# Altium footprint library DFE322520FD-2R2MP2.PcbLib: 3 footprints
Each footprint in its own frame and in the unit in brackets; x right, y up, seen from the top. Pads: shape width x height; smd on the part's side, far side on the other; paste and mask are expansions set on the pad; w line width, h text height; cw(c..) or ccw(c..) is an arc to the next point about the centre after c.
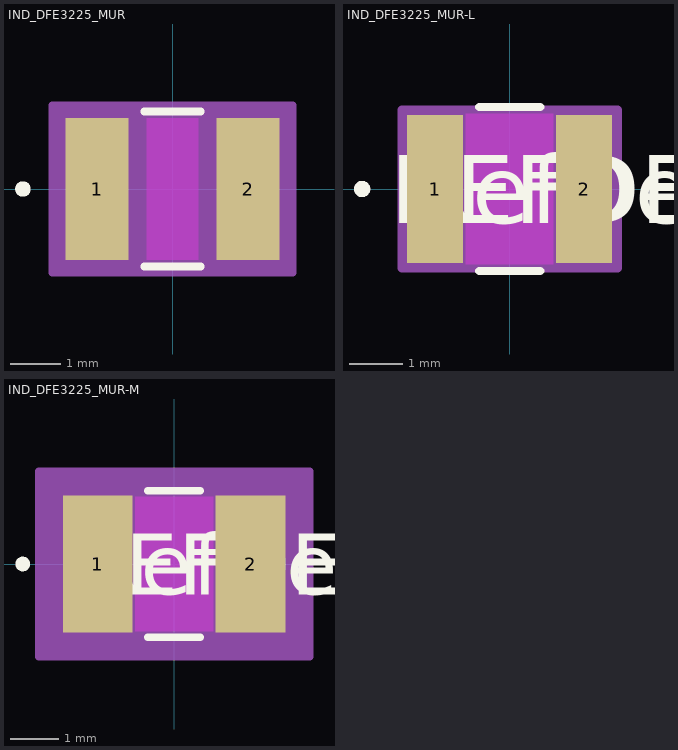
[diagram p0: the footprints below, top view; thin cyan lines are the x and y axes]

## IND_DFE3225_MUR [mil]
pads (2):
  rect 49x110 smd paste+0 mask+0: 1(-58.5,0) 2(58.5,0)
Top Layer keep-out:
  region: -20,-53 -20,53 20,53 20,-53
Top Overlay:
  circle w6: c-116,0 r3
  lines w6: -21.89,-60 21.89,-60 ; -21.89,60 21.89,60
Keep-Out Layer:
  region: -20,-55 -20,55 20,55 20,-55
Mechanical 13:
  circle w0: c-53.5,0 r3
  lines w1: -69,-55 -69,55 ; -69,-55 -34,-55 -34,55 -69,55 ; -69,-55 69,-55 ; -69,-55 -69,55 ; -69,55 69,55 ; 69,-55 34,-55 34,55 69,55 ; 69,-55 69,55 ; 69,-55 69,55
Mechanical 15:
  region: 93,-65 -93,-65 -93,65 93,65
  lines w6: -93,-65 -93,65 93,65 93,-65 -93,-65
3D body "IND_DFE3225_MUR.step": height 79.02, standoff 0, extent -69.02,-55 69.02,55

## IND_DFE3225_MUR-L [mil]
pads (2):
  rect 41x108 smd paste+0 mask+0: 1(-54.5,0) 2(54.5,0)
Top Layer keep-out:
  region: -32,-53 -32,53 32,53 32,-53
Top Overlay:
  circle w6: c-108,0 r3
  lines w6: -22.35,-60 22.35,-60 ; -22.35,60 22.35,60
  text "RefDes" at -75,-25 h50
  text "REFDES" at -87.5,-25 h50
Keep-Out Layer:
  region: -32,-55 -32,55 32,55 32,-55
Mechanical 13:
  circle w0: c-49.5,0 r3
  lines w1: -69,-55 -69,55 ; -69,-55 -34,-55 -34,55 -69,55 ; -69,-55 69,-55 ; -69,-55 -69,55 ; -69,55 69,55 ; 69,-55 34,-55 34,55 69,55 ; 69,-55 69,55 ; 69,-55 69,55
  text "RefDes2" at -87.5,-25 h50
Mechanical 15:
  region: 79,-58 -79,-58 -79,58 79,58
  lines w6: -79,-58 -79,58 79,58 79,-58 -79,-58
3D body "IND_DFE3225_MUR.step": height 79.02, standoff 0, extent -69.02,-55 69.02,55

## IND_DFE3225_MUR-M [mil]
pads (2):
  rect 57x112 smd paste+0 mask+0: 1(-62.5,0) 2(62.5,0)
Top Layer keep-out:
  region: -32,-53 -32,53 32,53 32,-53
Top Overlay:
  circle w6: c-124,0 r3
  lines w6: -21.53,-60 21.53,-60 ; -21.53,60 21.53,60
  text "RefDes" at -75,-25 h50
  text "REFDES" at -87.5,-25 h50
Keep-Out Layer:
  region: -32,-55 -32,55 32,55 32,-55
Mechanical 13:
  circle w0: c-57.5,0 r3
  lines w1: -69,-55 -69,55 ; -69,-55 -34,-55 -34,55 -69,55 ; -69,-55 69,-55 ; -69,-55 -69,55 ; -69,55 69,55 ; 69,-55 34,-55 34,55 69,55 ; 69,-55 69,55 ; 69,-55 69,55
  text "RefDes2" at -87.5,-25 h50
Mechanical 15:
  region: 111,-76 -111,-76 -111,76 111,76
  lines w6: -111,-76 -111,76 111,76 111,-76 -111,-76
3D body "IND_DFE3225_MUR.step": height 79.02, standoff 0, extent -69.02,-55 69.02,55